# Altium schematic symbol library CRCW121010K0JNEAIF.SchLib: 1 symbol
Pins are listed as number, name and electrical type; pins without a type are passive.

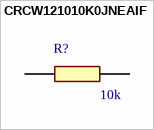
[diagram p0: symbol CRCW121010K0JNEAIF]

## CRCW121010K0JNEAIF
designator R?, comment 10k
10 kOhms +/-5% 0.5W, 1/2W Chip Resistor 1210 (3225 Metric) Automotive AEC-Q200, Pulse Withstanding Thick Film. CRCW121010K0JNEAIF; Manufacturer_Name: Vishay; Geometry.Height: 0.6mm; Mouser Part Number: *; Mouser Price/Stock: *; Manufacturer_Part_Number: CRCW121010K0JNEAIF; Datasheet Link: https://www.vishay.com/docs/20024/dcrcwife3.pdf
footprint RESC3225X60N
pins: 1, 2